# EAGLE library part HT16K33-SOP20 (library holtek-led-controller-V1)
RAM Mapping 16*8 LED Controller Driver with keyscan
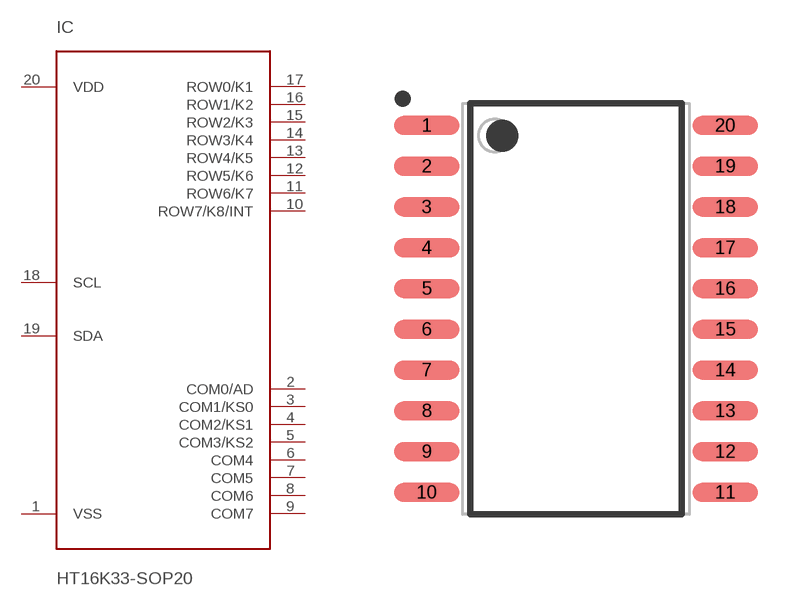
[diagram p2: symbol with the pads of SOIC127P1030X264-20N; footprint SOIC127P1030X264-20N]

Designator prefix IC

## HT16K33-SOP20  [SOIC127P1030X264-20N]
1  VSS  pwr
2  COM0/AD  out
3  COM1/KS0  out
4  COM2/KS1  out
5  COM3/KS2  out
6  COM4  out
7  COM5  out
8  COM6  out
9  COM7  out
10  ROW7/K8/INT
11  ROW6/K7
12  ROW5/K6
13  ROW4/K5
14  ROW3/K4
15  ROW2/K3
16  ROW1/K2
17  ROW0/K1
18  SCL  in
19  SDA
20  VDD  pwr

## Footprint SOIC127P1030X264-20N (pad centres in mm)
SOIC,1.27mm,pitch;20 pin,7.06mm W X 12.80mm L X 2.64mm H body
smd 2.05 x 0.6: 1 -4.65,5.715; 2 -4.65,4.445; 3 -4.65,3.175; 4 -4.65,1.905; 5 -4.65,0.635; 6 -4.65,-0.635; 7 -4.65,-1.905; 8 -4.65,-3.175; 9 -4.65,-4.445; 10 -4.65,-5.715; 11 4.65,-5.715; 12 4.65,-4.445; 13 4.65,-3.175; 14 4.65,-1.905; 15 4.65,-0.635; 16 4.65,0.635; 17 4.65,1.905; 18 4.65,3.175; 19 4.65,4.445; 20 4.65,5.715